# Altium schematic symbol library Mosfet N-Channel.Schlib: 1 symbol
Pins are listed as number, name and electrical type; pins without a type are passive.

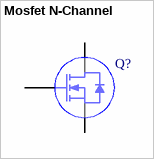
[diagram p0: symbol Mosfet N-Channel]

## Mosfet N-Channel
designator Q?  (value not drawn)
MOSFET N-CH; Published: 2017-1-12; DatasheetVersion: 2017-1-12; PackageVersion: 2017-1-12; PackageReference: TO-220AB; Publisher: Abbas Basereh; PackageDescription: MOSFET N-CH 400V 10A TO-220AB; ComponentLink1Description: http://www.digikey.com/products/en/discrete-semiconductor-products/19; ComponentLink1URL: http://www.digikey.com/product-detail/en/vishay-siliconix/IRF740PBF/IRF740PBF-ND/812037; ComponentLink2Description: Datasheet; ComponentLink2URL: http://www.roboeq.ir/files/id/1101/name/IRF740A.pdf
footprint TO-220 (Epoxy meets UL94, V0)
pins: 1 G, 2 D (power), 3 S (power)